# Altium integrated library NSC Temperature Sensor.IntLib: 116 symbols (part 3 of 3)
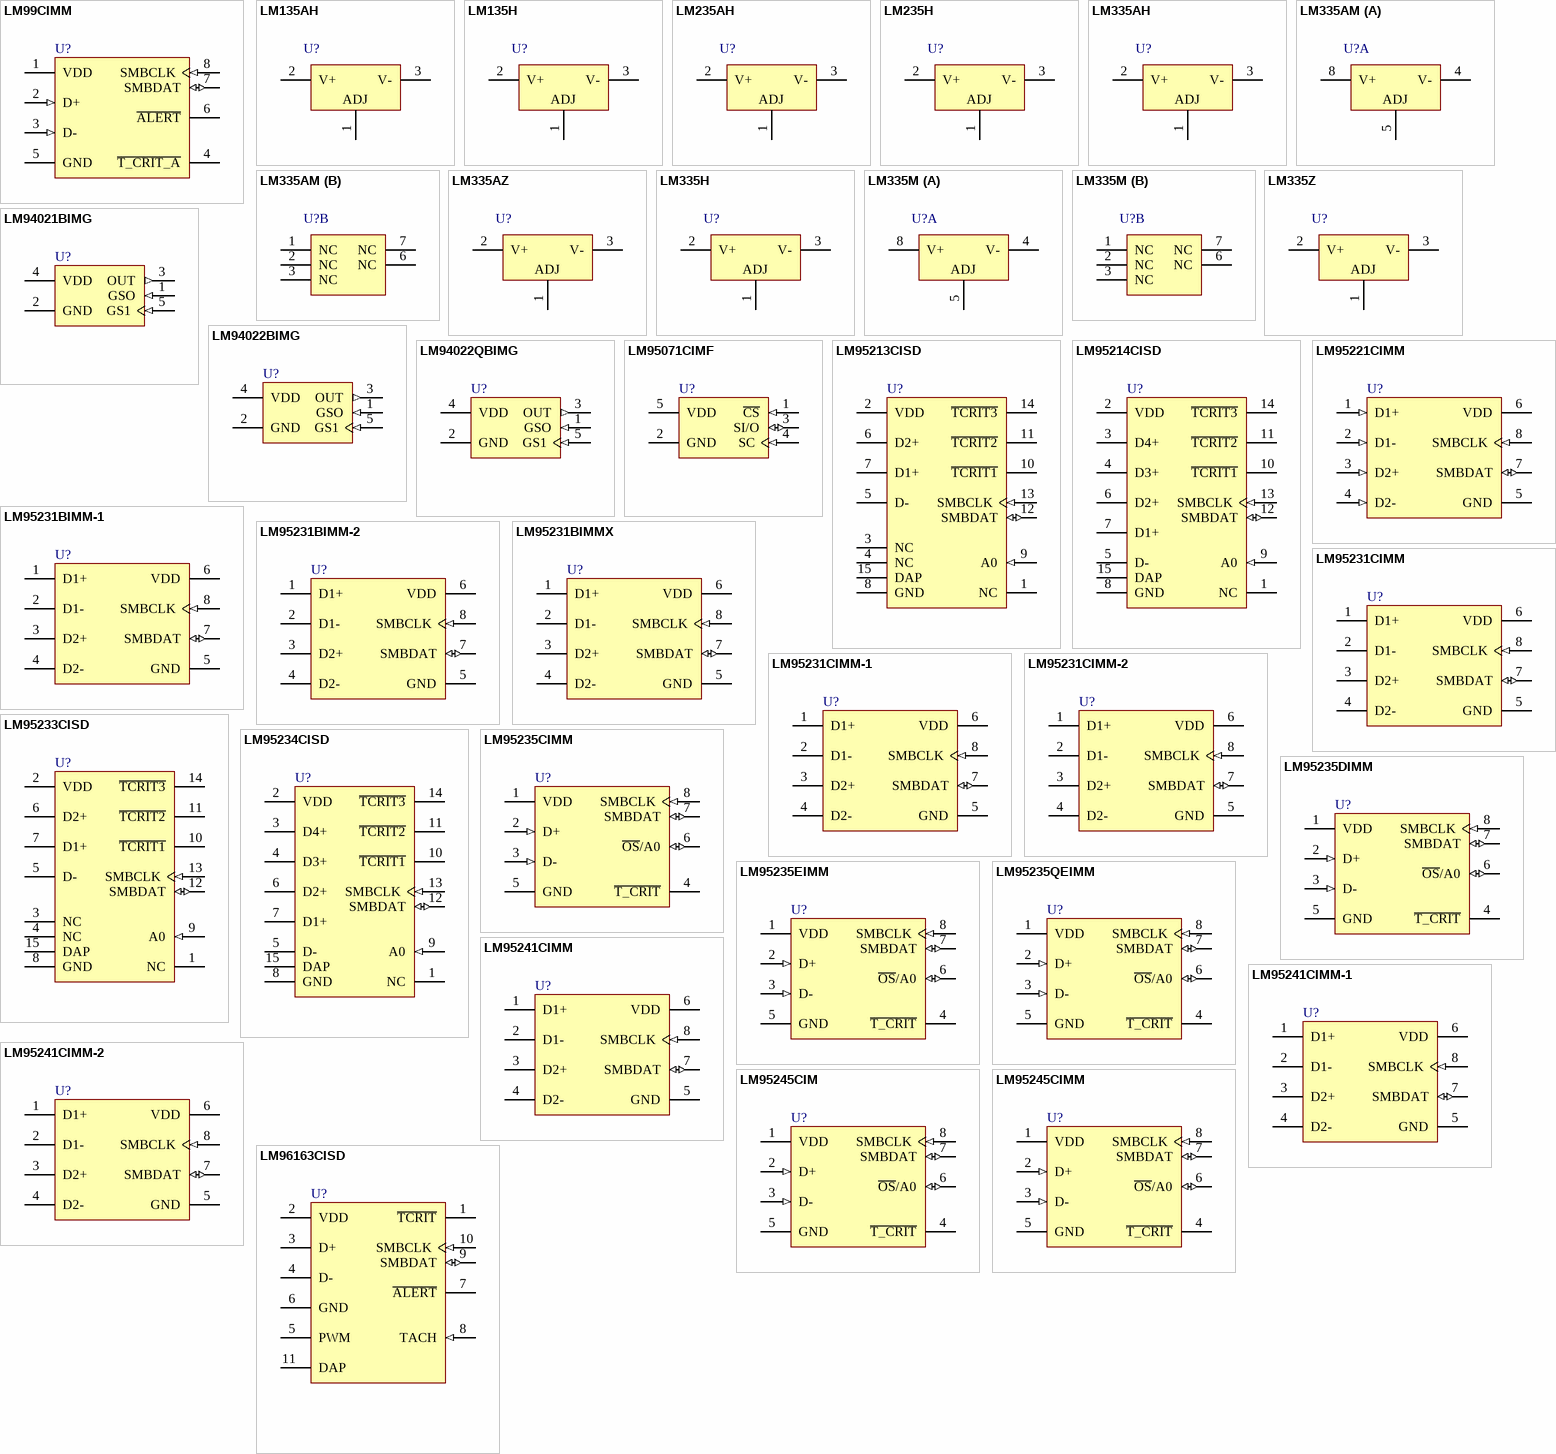
[diagram p4: symbols LM99CIMM to LM96163CISD]

## LM335AZ
designator U?
Precision Temperature Sensor; PartNumber: LM335AZ; Manufacturer: National Semiconductor; CompType: Temp Sensor IC; PackageTopMarking: NSXYTT*LM335*AZ; PowerWise: N; Published: 29-May-2009; DatasheetVersion: Dec-2008; PackageVersion: revG, Sep-2000; PackageReference: Z03A; Publisher: Altium Limited; PackageDescription: TO-92, Molded, 3 Lead; RoHS: O; PinCount: 3; DigiKeyPartNumber: LM335AZ-ND; Code_JEDEC: TO-226-AA; ComponentLink1Description: LM335A Datasheet; ComponentLink1URL: http://www.national.com/ds/LM/LM335.pdf; ComponentLink2Description: LM335A Web Page; ComponentLink2URL: http://www.national.com/pf/LM/LM335A.html; ComponentLink3Description: Z03A Package Page; ComponentLink3URL: http://www.national.com/packaging/folders/z03a.html
footprint Z03A (TO, Flat Index; 3 In-Line, Axial Leads; Body Dia. 5mm; Leads 0.55 x 0.50 mm (max))
pins: 1 ADJ, 2 V+, 3 V-

## LM335H
designator U?
Precision Temperature Sensor; PartNumber: LM335H; Manufacturer: National Semiconductor; CompType: Temp Sensor IC; PackageTopMarking: NSXYTTE# LM335H; PowerWise: N; MilaeroCode: 2MC; Published: 29-May-2009; DatasheetVersion: Dec-2008; PackageVersion: revF, Apr-2002; PackageReference: H03H; Publisher: Altium Limited; PackageDescription: Metal Can, TO-46, 3 Lead, .100in Dia, P.C.; RoHS: O; PinCount: 3; DigiKeyPartNumber: LM335H-ND; Code_JEDEC: TO-46; ComponentLink1Description: LM335 Datasheet; ComponentLink1URL: http://www.national.com/ds/LM/LM335.pdf; ComponentLink2Description: LM335 Web Page; ComponentLink2URL: http://www.national.com/pf/LM/LM335.html; ComponentLink3Description: H03H Package Page; ComponentLink3URL: http://www.national.com/packaging/folders/h03h.html
footprint H03H (Can; 3 Leads; Pin Circle Dia. 2.54 mm; Lead Dia. 0.48 mm (max))
pins: 1 ADJ, 2 V+, 3 V-

## LM335M
designator U?
Precision Temperature Sensor; PartNumber: LM335M; Manufacturer: National Semiconductor; CompType: Temp Sensor IC; PackageTopMarking: NSZXTT*LM335*M; PowerWise: N; Published: 29-May-2009; DatasheetVersion: Dec-2008; PackageVersion: revL, Sep-2006; PackageReference: M08A; Publisher: Altium Limited; PackageDescription: SOIC Narrow, 4.9 x 3.9 x 1.45mm, 8 Lead, 1.27mm Pitch; RoHS: O; PinCount: 8; DigiKeyPartNumber: LM335M-ND; Code_JEDEC: MS-012-AA; Code_IPC: SOIC127P600-8; ComponentLink1Description: LM335 Datasheet; ComponentLink1URL: http://www.national.com/ds/LM/LM335.pdf; ComponentLink2Description: LM335 Web Page; ComponentLink2URL: http://www.national.com/pf/LM/LM335.html; ComponentLink3Description: M08A Package Page; ComponentLink3URL: http://www.national.com/packaging/folders/m08a.html
footprint M08A_N (SOIC, 8-Leads, Body 4.9x3.9mm, Pitch 1.27mm, IPC Medium Density)
footprint M08A_L (SOIC, 8-Leads, Body 4.9x3.9mm, Pitch 1.27mm, IPC High Density)
footprint M08A_M (SOIC, 8-Leads, Body 4.9x3.9mm, Pitch 1.27mm, IPC Low Density)
part A pins: 4 V-, 5 ADJ, 8 V+
part B pins: 1 NC, 2 NC, 3 NC, 6 NC, 7 NC

## LM335Z
designator U?
Precision Temperature Sensor; PartNumber: LM335Z; Manufacturer: National Semiconductor; CompType: Temp Sensor IC; PackageTopMarking: NSXYTT*LM335*Z; PowerWise: N; Published: 29-May-2009; DatasheetVersion: Dec-2008; PackageVersion: revG, Sep-2000; PackageReference: Z03A; Publisher: Altium Limited; PackageDescription: TO-92, Molded, 3 Lead; RoHS: O; PinCount: 3; DigiKeyPartNumber: LM335ZNS-ND; Code_JEDEC: TO-226-AA; ComponentLink1Description: LM335 Datasheet; ComponentLink1URL: http://www.national.com/ds/LM/LM335.pdf; ComponentLink2Description: LM335 Web Page; ComponentLink2URL: http://www.national.com/pf/LM/LM335.html; ComponentLink3Description: Z03A Package Page; ComponentLink3URL: http://www.national.com/packaging/folders/z03a.html
footprint Z03A (TO, Flat Index; 3 In-Line, Axial Leads; Body Dia. 5mm; Leads 0.55 x 0.50 mm (max))
pins: 1 ADJ, 2 V+, 3 V-

## LM94021BIMG
designator U?
Multi-Gain Analog Temperature Sensor; PartNumber: LM94021BIMG; Manufacturer: National Semiconductor; CompType: Temp Sensor IC; PackageTopMarking: 21B*XTT; PowerWise: Y; Published: 4-Dec-2008; DatasheetVersion: Feb-2005; PackageVersion: revD, Jun-2007; PackageReference: MAA05A; Publisher: Altium Limited; PackageDescription: Molded SC-70, 2 x 1.25 x .9mm, 5 Lead, 0.65mm Pitch; RoHS: Y; PinCount: 5; DigiKeyPartNumber: LM94021BIMGCT-ND; Code_JEITA: SC-88A; Code_JEDEC: MO-203-AA; Code_IPC: SOT353-5; ComponentLink1Description: LM94021 Datasheet; ComponentLink1URL: http://www.national.com/ds/LM/LM94021.pdf; ComponentLink2Description: LM94021 Web Page; ComponentLink2URL: http://www.national.com/pf/LM/LM94021.html; ComponentLink3Description: MAA05A Package Page; ComponentLink3URL: http://www.national.com/packaging/folders/maa05a.html
footprint MAA05A_N (SOT353, 5-Leads, Body 2x1.3mm, Pitch 0.65mm, Lead Span 2.1mm, IPC Medium Density)
footprint MAA05A_L (SOT353, 5-Leads, Body 2x1.3mm, Pitch 0.65mm, Lead Span 2.1mm, IPC High Density)
footprint MAA05A_M (SOT353, 5-Leads, Body 2x1.3mm, Pitch 0.65mm, Lead Span 2.1mm, IPC Low Density)
pins: 1 GSO (in), 2 GND (power), 3 OUT (out), 4 VDD (power), 5 GS1 (in)

## LM94022BIMG
designator U?
1.5V, SC70, Multi-Gain Analog Temperature Sensor with Class-AB Output; PartNumber: LM94022BIMG; Manufacturer: National Semiconductor; CompType: Temp Sensor IC; PackageTopMarking: 22B*XTT; PowerWise: Y; Published: 4-Dec-2008; DatasheetVersion: Dec-2007; PackageVersion: revD, Jun-2007; PackageReference: MAA05A; Publisher: Altium Limited; PackageDescription: Molded SC-70, 2 x 1.25 x .9mm, 5 Lead, 0.65mm Pitch; RoHS: O; PinCount: 5; DigiKeyPartNumber: LM94022BIMGCT-ND; Code_JEITA: SC-88A; Code_JEDEC: MO-203-AA; Code_IPC: SOT353-5; ComponentLink1Description: LM94022 Datasheet; ComponentLink1URL: http://www.national.com/ds/LM/LM94022.pdf; ComponentLink2Description: LM94022 Web Page; ComponentLink2URL: http://www.national.com/pf/LM/LM94022.html; ComponentLink3Description: MAA05A Package Page; ComponentLink3URL: http://www.national.com/packaging/folders/maa05a.html
footprint MAA05A_N (SOT353, 5-Leads, Body 2x1.3mm, Pitch 0.65mm, Lead Span 2.1mm, IPC Medium Density)
footprint MAA05A_L (SOT353, 5-Leads, Body 2x1.3mm, Pitch 0.65mm, Lead Span 2.1mm, IPC High Density)
footprint MAA05A_M (SOT353, 5-Leads, Body 2x1.3mm, Pitch 0.65mm, Lead Span 2.1mm, IPC Low Density)
pins: 1 GSO (in), 2 GND (power), 3 OUT (out), 4 VDD (power), 5 GS1 (in)

## LM94022QBIMG
designator U?
1.5V, SC70, Multi-Gain Analog Temperature Sensor with Class-AB Output; PartNumber: LM94022QBIMG; Manufacturer: National Semiconductor; CompType: Temp Sensor IC; PackageTopMarking: 22Q*XTT; PowerWise: N; Published: 4-Dec-2008; DatasheetVersion: Dec-2007; PackageVersion: revD, Jun-2007; PackageReference: MAA05A; Publisher: Altium Limited; PackageDescription: Molded SC-70, 2 x 1.25 x .9mm, 5 Lead, 0.65mm Pitch; RoHS: Y; PinCount: 5; DigiKeyPartNumber: LM94022QBIMGCT-ND; Code_JEITA: SC-88A; Code_JEDEC: MO-203-AA; Code_IPC: SOT353-5; ComponentLink1Description: LM94022 Datasheet; ComponentLink1URL: http://www.national.com/ds/LM/LM94022.pdf; ComponentLink2Description: LM94022 Web Page; ComponentLink2URL: http://www.national.com/pf/LM/LM94022.html; ComponentLink3Description: MAA05A Package Page; ComponentLink3URL: http://www.national.com/packaging/folders/maa05a.html
footprint MAA05A_N (SOT353, 5-Leads, Body 2x1.3mm, Pitch 0.65mm, Lead Span 2.1mm, IPC Medium Density)
footprint MAA05A_L (SOT353, 5-Leads, Body 2x1.3mm, Pitch 0.65mm, Lead Span 2.1mm, IPC High Density)
footprint MAA05A_M (SOT353, 5-Leads, Body 2x1.3mm, Pitch 0.65mm, Lead Span 2.1mm, IPC Low Density)
pins: 1 GSO (in), 2 GND (power), 3 OUT (out), 4 VDD (power), 5 GS1 (in)

## LM95071CIMF
designator U?
SPI/MICROWIRE 13-Bit Plus Sign Temperature Sensor; PartNumber: LM95071CIMF; Manufacturer: National Semiconductor; CompType: Temp Sensor IC; PackageTopMarking: T18C*XTT; PowerWise: Y; Published: 4-Dec-2008; DatasheetVersion: Feb-2005; PackageVersion: revD, Aug-2008; PackageReference: MF05A; Publisher: Altium Limited; PackageDescription: Molded SOT-23, .115 x .063 x .040 in Body, 5 Lead, .0375 in Pitch; RoHS: Y; PinCount: 5; DigiKeyPartNumber: LM95071CIMFCT-ND; ComponentLink1Description: LM95071 Datasheet; ComponentLink1URL: http://www.national.com/ds/LM/LM95071.pdf; ComponentLink2Description: LM95071 Web Page; ComponentLink2URL: http://www.national.com/pf/LM/LM95071.html; ComponentLink3Description: MF05A Package Page; ComponentLink3URL: http://www.national.com/packaging/folders/mf05a.html
footprint MF05A_N (SOT23, 5-Leads, Body 2.9x1.6mm, Pitch 0.95mm, Lead Span 2.8mm, IPC Medium Density)
footprint MF05A_L (SOT23, 5-Leads, Body 2.9x1.6mm, Pitch 0.95mm, Lead Span 2.8mm, IPC High Density)
footprint MF05A_M (SOT23, 5-Leads, Body 2.9x1.6mm, Pitch 0.95mm, Lead Span 2.8mm, IPC Low Density)
pins: 1 ~{CS} (in), 2 GND (power), 3 SI/O (io), 4 SC (in), 5 VDD (power)

## LM95213CISD
designator U?
2-Diode Input and Local Digital Temperature Sensor with Two-Wire Interface and TCRIT Outputs; PartNumber: LM95213CISD; Manufacturer: National Semiconductor; CompType: Temp Sensor IC; PackageTopMarking: NS*UZXYTT*95213CI; PowerWise: Y; Published: 4-Dec-2008; DatasheetVersion: Mar-2007; PackageVersion: revA, Jul-2004; PackageReference: SDA14B; Publisher: Altium Limited; PackageDescription: LLP, Plastic, Dual, 4 x 4 x 0.8mm Body, 14 Lead, 0.5mm Pitch, No Pullback; RoHS: Y; PinCount: 14; DigiKeyPartNumber: LM95213CISDCT-ND; ComponentLink1Description: LM95213 Datasheet; ComponentLink1URL: http://www.national.com/ds/LM/LM95213.pdf; ComponentLink2Description: LM95213 Web Page; ComponentLink2URL: http://www.national.com/pf/LM/LM95213.html; ComponentLink3Description: SDA14B Package Page; ComponentLink3URL: http://www.national.com/packaging/folders/sda14b.html
footprint SDA14B (SON, 14-Leads, Body 4x4mm, Pitch 0.5mm, NSC Recommended)
pins: 1 NC, 2 VDD (power), 3 NC, 4 NC, 5 D-, 6 D2+, 7 D1+, 8 GND (power), 9 A0 (in), 10 ~{TCRIT1} (oc), 11 ~{TCRIT2} (oc), 12 SMBDAT (io), 13 SMBCLK (in), 14 ~{TCRIT3} (oc), 15 DAP (power)

## LM95214CISD
designator U?
Quad Remote Diode and Local Temperature Sensor with SMBus Interface; PartNumber: LM95214CISD; Manufacturer: National Semiconductor; CompType: Temp Sensor IC; PackageTopMarking: NS*UZXYTT*95214CI; PowerWise: Y; Published: 4-Dec-2008; DatasheetVersion: Mar-2007; PackageVersion: revA, Jul-2004; PackageReference: SDA14B; Publisher: Altium Limited; PackageDescription: LLP, Plastic, Dual, 4 x 4 x 0.8mm Body, 14 Lead, 0.5mm Pitch, No Pullback; RoHS: Y; PinCount: 14; DigiKeyPartNumber: LM95214CISDCT-ND; ComponentLink1Description: LM95214 Datasheet; ComponentLink1URL: http://www.national.com/ds/LM/LM95214.pdf; ComponentLink2Description: LM95214 Web Page; ComponentLink2URL: http://www.national.com/pf/LM/LM95214.html; ComponentLink3Description: SDA14B Package Page; ComponentLink3URL: http://www.national.com/packaging/folders/sda14b.html
footprint SDA14B (SON, 14-Leads, Body 4x4mm, Pitch 0.5mm, NSC Recommended)
pins: 1 NC, 2 VDD (power), 3 D4+, 4 D3+, 5 D-, 6 D2+, 7 D1+, 8 GND (power), 9 A0 (in), 10 ~{TCRIT1} (oc), 11 ~{TCRIT2} (oc), 12 SMBDAT (io), 13 SMBCLK (in), 14 ~{TCRIT3} (oc), 15 DAP (power)

## LM95221CIMM
designator U?
Dual Remote Diode Digital Temperature Sensor with SMBus Interface; PartNumber: LM95221CIMM; Manufacturer: National Semiconductor; CompType: Temp Sensor IC; PackageTopMarking: ZXTT*T21C; PowerWise: N; Published: 4-Dec-2008; DatasheetVersion: May-2004; PackageVersion: revF, Apr-2008; PackageReference: MUA08A; Publisher: Altium Limited; PackageDescription: MINI SOIC, .118 x .118 x .034in, 8 Lead, .0256in Pitch; RoHS: Y; PinCount: 8; DigiKeyPartNumber: LM95221CIMM-ND; Code_JEDEC: MO-187-AA; ComponentLink1Description: LM95221 Datasheet; ComponentLink1URL: http://www.national.com/ds/LM/LM95221.pdf; ComponentLink2Description: LM95221 Web Page; ComponentLink2URL: http://www.national.com/pf/LM/LM95221.html; ComponentLink3Description: MUA08A Package Page; ComponentLink3URL: http://www.national.com/packaging/folders/mua08a.html
footprint MUA08A_N (TSOP, 8-Leads, Body 3x3mm, Pitch 0.65mm, IPC Medium Density)
footprint MUA08A_L (TSOP, 8-Leads, Body 3x3mm, Pitch 0.65mm, IPC High Density)
footprint MUA08A_M (TSOP, 8-Leads, Body 3x3mm, Pitch 0.65mm, IPC Low Density)
pins: 1 D1+ (in), 2 D1- (in), 3 D2+ (in), 4 D2- (in), 5 GND (power), 6 VDD (power), 7 SMBDAT (io), 8 SMBCLK (in)

## LM95231BIMM-1
designator U?
Precision Dual Remote Diode Temperature Sensor with SMBus Interface and TruTherm Technology; PartNumber: LM95231BIMM-1; Manufacturer: National Semiconductor; CompType: Temp Sensor IC; PackageTopMarking: ZXTT*T25B; PowerWise: N; Published: 4-Dec-2008; DatasheetVersion: Aug-2006; PackageVersion: revF, Apr-2008; PackageReference: MUA08A; Publisher: Altium Limited; PackageDescription: MINI SOIC, .118 x .118 x .034in, 8 Lead, .0256in Pitch; RoHS: Y; PinCount: 8; DigiKeyPartNumber: LM95231BIMM-1CT-ND; Code_JEDEC: MO-187-AA; ComponentLink1Description: LM95231 Datasheet; ComponentLink1URL: http://www.national.com/ds/LM/LM95231.pdf; ComponentLink2Description: LM95231 Web Page; ComponentLink2URL: http://www.national.com/pf/LM/LM95231.html; ComponentLink3Description: MUA08A Package Page; ComponentLink3URL: http://www.national.com/packaging/folders/mua08a.html
footprint MUA08A_N (TSOP, 8-Leads, Body 3x3mm, Pitch 0.65mm, IPC Medium Density)
footprint MUA08A_L (TSOP, 8-Leads, Body 3x3mm, Pitch 0.65mm, IPC High Density)
footprint MUA08A_M (TSOP, 8-Leads, Body 3x3mm, Pitch 0.65mm, IPC Low Density)
pins: 1 D1+, 2 D1-, 3 D2+, 4 D2-, 5 GND (power), 6 VDD (power), 7 SMBDAT (io), 8 SMBCLK (in)

## LM95231BIMM-2
designator U?
Precision Dual Remote Diode Temperature Sensor with SMBus Interface and TruTherm Technology; PartNumber: LM95231BIMM-2; Manufacturer: National Semiconductor; CompType: Temp Sensor IC; PackageTopMarking: ZXTT*T26B; PowerWise: N; Published: 4-Dec-2008; DatasheetVersion: Aug-2006; PackageVersion: revF, Apr-2008; PackageReference: MUA08A; Publisher: Altium Limited; PackageDescription: MINI SOIC, .118 x .118 x .034in, 8 Lead, .0256in Pitch; RoHS: Y; PinCount: 8; DigiKeyPartNumber: LM95231BIMM-2CT-ND; Code_JEDEC: MO-187-AA; ComponentLink1Description: LM95231 Datasheet; ComponentLink1URL: http://www.national.com/ds/LM/LM95231.pdf; ComponentLink2Description: LM95231 Web Page; ComponentLink2URL: http://www.national.com/pf/LM/LM95231.html; ComponentLink3Description: MUA08A Package Page; ComponentLink3URL: http://www.national.com/packaging/folders/mua08a.html
footprint MUA08A_N (TSOP, 8-Leads, Body 3x3mm, Pitch 0.65mm, IPC Medium Density)
footprint MUA08A_L (TSOP, 8-Leads, Body 3x3mm, Pitch 0.65mm, IPC High Density)
footprint MUA08A_M (TSOP, 8-Leads, Body 3x3mm, Pitch 0.65mm, IPC Low Density)
pins: 1 D1+, 2 D1-, 3 D2+, 4 D2-, 5 GND (power), 6 VDD (power), 7 SMBDAT (io), 8 SMBCLK (in)

## LM95231BIMMX
designator U?
Precision Dual Remote Diode Temperature Sensor with SMBus Interface and TruTherm Technology; PartNumber: LM95231BIMMX; Manufacturer: National Semiconductor; CompType: Temp Sensor IC; PackageTopMarking: ZXTT*T23B; PowerWise: N; Published: 4-Dec-2008; DatasheetVersion: Aug-2006; PackageVersion: revF, Apr-2008; PackageReference: MUA08A; Publisher: Altium Limited; PackageDescription: MINI SOIC, .118 x .118 x .034in, 8 Lead, .0256in Pitch; RoHS: Y; PinCount: 8; DigiKeyPartNumber: LM95231BIMMX-ND; Code_JEDEC: MO-187-AA; ComponentLink1Description: LM95231 Datasheet; ComponentLink1URL: http://www.national.com/ds/LM/LM95231.pdf; ComponentLink2Description: LM95231 Web Page; ComponentLink2URL: http://www.national.com/pf/LM/LM95231.html; ComponentLink3Description: MUA08A Package Page; ComponentLink3URL: http://www.national.com/packaging/folders/mua08a.html
footprint MUA08A_N (TSOP, 8-Leads, Body 3x3mm, Pitch 0.65mm, IPC Medium Density)
footprint MUA08A_L (TSOP, 8-Leads, Body 3x3mm, Pitch 0.65mm, IPC High Density)
footprint MUA08A_M (TSOP, 8-Leads, Body 3x3mm, Pitch 0.65mm, IPC Low Density)
pins: 1 D1+, 2 D1-, 3 D2+, 4 D2-, 5 GND (power), 6 VDD (power), 7 SMBDAT (io), 8 SMBCLK (in)

## LM95231CIMM
designator U?
Precision Dual Remote Diode Temperature Sensor with SMBus Interface and TruTherm Technology; PartNumber: LM95231CIMM; Manufacturer: National Semiconductor; CompType: Temp Sensor IC; PackageTopMarking: ZXTT*T23C; PowerWise: N; Published: 4-Dec-2008; DatasheetVersion: Aug-2006; PackageVersion: revF, Apr-2008; PackageReference: MUA08A; Publisher: Altium Limited; PackageDescription: MINI SOIC, .118 x .118 x .034in, 8 Lead, .0256in Pitch; RoHS: Y; PinCount: 8; DigiKeyPartNumber: LM95231CIMMCT-ND; Code_JEDEC: MO-187-AA; ComponentLink1Description: LM95231 Datasheet; ComponentLink1URL: http://www.national.com/ds/LM/LM95231.pdf; ComponentLink2Description: LM95231 Web Page; ComponentLink2URL: http://www.national.com/pf/LM/LM95231.html; ComponentLink3Description: MUA08A Package Page; ComponentLink3URL: http://www.national.com/packaging/folders/mua08a.html
footprint MUA08A_N (TSOP, 8-Leads, Body 3x3mm, Pitch 0.65mm, IPC Medium Density)
footprint MUA08A_L (TSOP, 8-Leads, Body 3x3mm, Pitch 0.65mm, IPC High Density)
footprint MUA08A_M (TSOP, 8-Leads, Body 3x3mm, Pitch 0.65mm, IPC Low Density)
pins: 1 D1+, 2 D1-, 3 D2+, 4 D2-, 5 GND (power), 6 VDD (power), 7 SMBDAT (io), 8 SMBCLK (in)

## LM95231CIMM-1
designator U?
Precision Dual Remote Diode Temperature Sensor with SMBus Interface and TruTherm Technology; PartNumber: LM95231CIMM-1; Manufacturer: National Semiconductor; CompType: Temp Sensor IC; PackageTopMarking: ZXTT*T25C; PowerWise: N; Published: 4-Dec-2008; DatasheetVersion: Aug-2006; PackageVersion: revF, Apr-2008; PackageReference: MUA08A; Publisher: Altium Limited; PackageDescription: MINI SOIC, .118 x .118 x .034in, 8 Lead, .0256in Pitch; RoHS: Y; PinCount: 8; DigiKeyPartNumber: LM95231CIMM-1CT-ND; Code_JEDEC: MO-187-AA; ComponentLink1Description: LM95231 Datasheet; ComponentLink1URL: http://www.national.com/ds/LM/LM95231.pdf; ComponentLink2Description: LM95231 Web Page; ComponentLink2URL: http://www.national.com/pf/LM/LM95231.html; ComponentLink3Description: MUA08A Package Page; ComponentLink3URL: http://www.national.com/packaging/folders/mua08a.html
footprint MUA08A_N (TSOP, 8-Leads, Body 3x3mm, Pitch 0.65mm, IPC Medium Density)
footprint MUA08A_L (TSOP, 8-Leads, Body 3x3mm, Pitch 0.65mm, IPC High Density)
footprint MUA08A_M (TSOP, 8-Leads, Body 3x3mm, Pitch 0.65mm, IPC Low Density)
pins: 1 D1+, 2 D1-, 3 D2+, 4 D2-, 5 GND (power), 6 VDD (power), 7 SMBDAT (io), 8 SMBCLK (in)

## LM95231CIMM-2
designator U?
Precision Dual Remote Diode Temperature Sensor with SMBus Interface and TruTherm Technology; PartNumber: LM95231CIMM-2; Manufacturer: National Semiconductor; CompType: Temp Sensor IC; PackageTopMarking: ZXTT*T26C; PowerWise: N; Published: 4-Dec-2008; DatasheetVersion: Aug-2006; PackageVersion: revF, Apr-2008; PackageReference: MUA08A; Publisher: Altium Limited; PackageDescription: MINI SOIC, .118 x .118 x .034in, 8 Lead, .0256in Pitch; RoHS: Y; PinCount: 8; DigiKeyPartNumber: LM95231CIMM-2CT-ND; Code_JEDEC: MO-187-AA; ComponentLink1Description: LM95231 Datasheet; ComponentLink1URL: http://www.national.com/ds/LM/LM95231.pdf; ComponentLink2Description: LM95231 Web Page; ComponentLink2URL: http://www.national.com/pf/LM/LM95231.html; ComponentLink3Description: MUA08A Package Page; ComponentLink3URL: http://www.national.com/packaging/folders/mua08a.html
footprint MUA08A_N (TSOP, 8-Leads, Body 3x3mm, Pitch 0.65mm, IPC Medium Density)
footprint MUA08A_L (TSOP, 8-Leads, Body 3x3mm, Pitch 0.65mm, IPC High Density)
footprint MUA08A_M (TSOP, 8-Leads, Body 3x3mm, Pitch 0.65mm, IPC Low Density)
pins: 1 D1+, 2 D1-, 3 D2+, 4 D2-, 5 GND (power), 6 VDD (power), 7 SMBDAT (io), 8 SMBCLK (in)

## LM95233CISD
designator U?
Dual Remote Diode and Local Temperature Sensor with SMBus Interface and TruTherm Technology; PartNumber: LM95233CISD; Manufacturer: National Semiconductor; CompType: Temp Sensor IC; PackageTopMarking: NS*UZXYTT*95233CI; PowerWise: Y; Published: 4-Dec-2008; DatasheetVersion: Jun-2007; PackageVersion: revA, Jul-2004; PackageReference: SDA14B; Publisher: Altium Limited; PackageDescription: LLP, Plastic, Dual, 4 x 4 x 0.8mm Body, 14 Lead, 0.5mm Pitch, No Pullback; RoHS: O; PinCount: 14; DigiKeyPartNumber: LM95233CISDCT-ND; ComponentLink1Description: LM95233 Datasheet; ComponentLink1URL: http://www.national.com/ds/LM/LM95233.pdf; ComponentLink2Description: LM95233 Web Page; ComponentLink2URL: http://www.national.com/pf/LM/LM95233.html; ComponentLink3Description: SDA14B Package Page; ComponentLink3URL: http://www.national.com/packaging/folders/sda14b.html
footprint SDA14B (SON, 14-Leads, Body 4x4mm, Pitch 0.5mm, NSC Recommended)
pins: 1 NC, 2 VDD (power), 3 NC, 4 NC, 5 D-, 6 D2+, 7 D1+, 8 GND (power), 9 A0 (in), 10 ~{TCRIT1} (oc), 11 ~{TCRIT2} (oc), 12 SMBDAT (io), 13 SMBCLK (in), 14 ~{TCRIT3} (oc), 15 DAP (power)

## LM95234CISD
designator U?
Quad Remote Diode and Local Temperature Sensor with SMBus Interface and TruTherm Technology; PartNumber: LM95234CISD; Manufacturer: National Semiconductor; CompType: Temp Sensor IC; PackageTopMarking: NS*UZXYTT*95234CI; PowerWise: Y; Published: 4-Dec-2008; DatasheetVersion: Jun-2007; PackageVersion: revA, Jul-2004; PackageReference: SDA14B; Publisher: Altium Limited; PackageDescription: LLP, Plastic, Dual, 4 x 4 x 0.8mm Body, 14 Lead, 0.5mm Pitch, No Pullback; RoHS: O; PinCount: 14; DigiKeyPartNumber: LM95234CISDCT-ND; ComponentLink1Description: LM95234 Datasheet; ComponentLink1URL: http://www.national.com/ds/LM/LM95234.pdf; ComponentLink2Description: LM95234 Web Page; ComponentLink2URL: http://www.national.com/pf/LM/LM95234.html; ComponentLink3Description: SDA14B Package Page; ComponentLink3URL: http://www.national.com/packaging/folders/sda14b.html
footprint SDA14B (SON, 14-Leads, Body 4x4mm, Pitch 0.5mm, NSC Recommended)
pins: 1 NC, 2 VDD (power), 3 D4+, 4 D3+, 5 D-, 6 D2+, 7 D1+, 8 GND (power), 9 A0 (in), 10 ~{TCRIT1} (oc), 11 ~{TCRIT2} (oc), 12 SMBDAT (io), 13 SMBCLK (in), 14 ~{TCRIT3} (oc), 15 DAP (power)

## LM95235CIMM
designator U?
Precision Remote Diode Temperature Sensor with SMBus Interface and TruTherm Technology; PartNumber: LM95235CIMM; Manufacturer: National Semiconductor; CompType: Temp Sensor IC; PackageTopMarking: ZXTT*T36C; PowerWise: Y; Published: 4-Dec-2008; DatasheetVersion: Aug-2008; PackageVersion: revF, Apr-2008; PackageReference: MUA08A; Publisher: Altium Limited; PackageDescription: MINI SOIC, .118 x .118 x .034in, 8 Lead, .0256in Pitch; RoHS: Y; PinCount: 8; DigiKeyPartNumber: LM95235CIMMCT-ND; Code_JEDEC: MO-187-AA; ComponentLink1Description: LM95235 Datasheet; ComponentLink1URL: http://www.national.com/ds/LM/LM95235.pdf; ComponentLink2Description: LM95235 Web Page; ComponentLink2URL: http://www.national.com/pf/LM/LM95235.html; ComponentLink3Description: MUA08A Package Page; ComponentLink3URL: http://www.national.com/packaging/folders/mua08a.html
footprint MUA08A_N (TSOP, 8-Leads, Body 3x3mm, Pitch 0.65mm, IPC Medium Density)
footprint MUA08A_L (TSOP, 8-Leads, Body 3x3mm, Pitch 0.65mm, IPC High Density)
footprint MUA08A_M (TSOP, 8-Leads, Body 3x3mm, Pitch 0.65mm, IPC Low Density)
pins: 1 VDD (power), 2 D+ (in), 3 D- (in), 4 ~{T_CRIT} (oc), 5 GND (power), 6 ~{OS}/A0 (io), 7 SMBDAT (io), 8 SMBCLK (in)

## LM95235DIMM
designator U?
Precision Remote Diode Temperature Sensor with SMBus Interface and TruTherm Technology; PartNumber: LM95235DIMM; Manufacturer: National Semiconductor; CompType: Temp Sensor IC; PackageTopMarking: ZXTT*T36D; PowerWise: N; Published: 4-Dec-2008; DatasheetVersion: Aug-2008; PackageVersion: revF, Apr-2008; PackageReference: MUA08A; Publisher: Altium Limited; PackageDescription: MINI SOIC, .118 x .118 x .034in, 8 Lead, .0256in Pitch; RoHS: Y; PinCount: 8; DigiKeyPartNumber: LM95235DIMMCT-ND; Code_JEDEC: MO-187-AA; ComponentLink1Description: LM95235 Datasheet; ComponentLink1URL: http://www.national.com/ds/LM/LM95235.pdf; ComponentLink2Description: LM95235 Web Page; ComponentLink2URL: http://www.national.com/pf/LM/LM95235.html; ComponentLink3Description: MUA08A Package Page; ComponentLink3URL: http://www.national.com/packaging/folders/mua08a.html
footprint MUA08A_N (TSOP, 8-Leads, Body 3x3mm, Pitch 0.65mm, IPC Medium Density)
footprint MUA08A_L (TSOP, 8-Leads, Body 3x3mm, Pitch 0.65mm, IPC High Density)
footprint MUA08A_M (TSOP, 8-Leads, Body 3x3mm, Pitch 0.65mm, IPC Low Density)
pins: 1 VDD (power), 2 D+ (in), 3 D- (in), 4 ~{T_CRIT} (oc), 5 GND (power), 6 ~{OS}/A0 (io), 7 SMBDAT (io), 8 SMBCLK (in)

## LM95235EIMM
designator U?
Precision Remote Diode Temperature Sensor with SMBus Interface and TruTherm Technology; PartNumber: LM95235EIMM; Manufacturer: National Semiconductor; CompType: Temp Sensor IC; PackageTopMarking: ZXTT*T36E; PowerWise: N; Published: 4-Dec-2008; DatasheetVersion: Aug-2008; PackageVersion: revF, Apr-2008; PackageReference: MUA08A; Publisher: Altium Limited; PackageDescription: MINI SOIC, .118 x .118 x .034in, 8 Lead, .0256in Pitch; RoHS: Y; PinCount: 8; DigiKeyPartNumber: LM95235EIMMCT-ND; Code_JEDEC: MO-187-AA; ComponentLink1Description: LM95235 Datasheet; ComponentLink1URL: http://www.national.com/ds/LM/LM95235.pdf; ComponentLink2Description: LM95235 Web Page; ComponentLink2URL: http://www.national.com/pf/LM/LM95235.html; ComponentLink3Description: MUA08A Package Page; ComponentLink3URL: http://www.national.com/packaging/folders/mua08a.html
footprint MUA08A_N (TSOP, 8-Leads, Body 3x3mm, Pitch 0.65mm, IPC Medium Density)
footprint MUA08A_L (TSOP, 8-Leads, Body 3x3mm, Pitch 0.65mm, IPC High Density)
footprint MUA08A_M (TSOP, 8-Leads, Body 3x3mm, Pitch 0.65mm, IPC Low Density)
pins: 1 VDD (power), 2 D+ (in), 3 D- (in), 4 ~{T_CRIT} (oc), 5 GND (power), 6 ~{OS}/A0 (io), 7 SMBDAT (io), 8 SMBCLK (in)

## LM95235QEIMM
designator U?
Precision Remote Diode Temperature Sensor with SMBus Interface and TruTherm Technology; PartNumber: LM95235QEIMM; Manufacturer: National Semiconductor; CompType: Temp Sensor IC; PackageTopMarking: ZXTT*36QE; PowerWise: N; Published: 4-Dec-2008; DatasheetVersion: Aug-2008; PackageVersion: revF, Apr-2008; PackageReference: MUA08A; Publisher: Altium Limited; PackageDescription: MINI SOIC, .118 x .118 x .034in, 8 Lead, .0256in Pitch; RoHS: O; PinCount: 8; DigiKeyPartNumber: LM95235QEIMMCT-ND; Code_JEDEC: MO-187-AA; ComponentLink1Description: LM95235 Datasheet; ComponentLink1URL: http://www.national.com/ds/LM/LM95235.pdf; ComponentLink2Description: LM95235 Web Page; ComponentLink2URL: http://www.national.com/pf/LM/LM95235.html; ComponentLink3Description: MUA08A Package Page; ComponentLink3URL: http://www.national.com/packaging/folders/mua08a.html
footprint MUA08A_N (TSOP, 8-Leads, Body 3x3mm, Pitch 0.65mm, IPC Medium Density)
footprint MUA08A_L (TSOP, 8-Leads, Body 3x3mm, Pitch 0.65mm, IPC High Density)
footprint MUA08A_M (TSOP, 8-Leads, Body 3x3mm, Pitch 0.65mm, IPC Low Density)
pins: 1 VDD (power), 2 D+ (in), 3 D- (in), 4 ~{T_CRIT} (oc), 5 GND (power), 6 ~{OS}/A0 (io), 7 SMBDAT (io), 8 SMBCLK (in)

## LM95241CIMM
designator U?
Dual Remote Diode Temperature Sensor with SMBus Interface and TruTherm Technology (65nm/90nm); PartNumber: LM95241CIMM; Manufacturer: National Semiconductor; CompType: Temp Sensor IC; PackageTopMarking: ZXTT*T28C; PowerWise: Y; Published: 4-Dec-2008; DatasheetVersion: Sep-2006; PackageVersion: revF, Apr-2008; PackageReference: MUA08A; Publisher: Altium Limited; PackageDescription: MINI SOIC, .118 x .118 x .034in, 8 Lead, .0256in Pitch; RoHS: Y; PinCount: 8; DigiKeyPartNumber: LM95241CIMMCT-ND; Code_JEDEC: MO-187-AA; ComponentLink1Description: LM95241 Datasheet; ComponentLink1URL: http://www.national.com/ds/LM/LM95241.pdf; ComponentLink2Description: LM95241 Web Page; ComponentLink2URL: http://www.national.com/pf/LM/LM95241.html; ComponentLink3Description: MUA08A Package Page; ComponentLink3URL: http://www.national.com/packaging/folders/mua08a.html
footprint MUA08A_N (TSOP, 8-Leads, Body 3x3mm, Pitch 0.65mm, IPC Medium Density)
footprint MUA08A_L (TSOP, 8-Leads, Body 3x3mm, Pitch 0.65mm, IPC High Density)
footprint MUA08A_M (TSOP, 8-Leads, Body 3x3mm, Pitch 0.65mm, IPC Low Density)
pins: 1 D1+, 2 D1-, 3 D2+, 4 D2-, 5 GND (power), 6 VDD (power), 7 SMBDAT (io), 8 SMBCLK (in)

## LM95241CIMM-1
designator U?
Dual Remote Diode Temperature Sensor with SMBus Interface and TruTherm Technology (65nm/90nm); PartNumber: LM95241CIMM-1; Manufacturer: National Semiconductor; CompType: Temp Sensor IC; PackageTopMarking: ZXTT*T29C; PowerWise: Y; Published: 4-Dec-2008; DatasheetVersion: Sep-2006; PackageVersion: revF, Apr-2008; PackageReference: MUA08A; Publisher: Altium Limited; PackageDescription: MINI SOIC, .118 x .118 x .034in, 8 Lead, .0256in Pitch; RoHS: Y; PinCount: 8; DigiKeyPartNumber: LM95241CIMM-1CT-ND; Code_JEDEC: MO-187-AA; ComponentLink1Description: LM95241 Datasheet; ComponentLink1URL: http://www.national.com/ds/LM/LM95241.pdf; ComponentLink2Description: LM95241 Web Page; ComponentLink2URL: http://www.national.com/pf/LM/LM95241.html; ComponentLink3Description: MUA08A Package Page; ComponentLink3URL: http://www.national.com/packaging/folders/mua08a.html
footprint MUA08A_N (TSOP, 8-Leads, Body 3x3mm, Pitch 0.65mm, IPC Medium Density)
footprint MUA08A_L (TSOP, 8-Leads, Body 3x3mm, Pitch 0.65mm, IPC High Density)
footprint MUA08A_M (TSOP, 8-Leads, Body 3x3mm, Pitch 0.65mm, IPC Low Density)
pins: 1 D1+, 2 D1-, 3 D2+, 4 D2-, 5 GND (power), 6 VDD (power), 7 SMBDAT (io), 8 SMBCLK (in)

## LM95241CIMM-2
designator U?
Dual Remote Diode Temperature Sensor with SMBus Interface and TruTherm Technology (65nm/90nm); PartNumber: LM95241CIMM-2; Manufacturer: National Semiconductor; CompType: Temp Sensor IC; PackageTopMarking: ZXTT*T30C; PowerWise: Y; Published: 4-Dec-2008; DatasheetVersion: Sep-2006; PackageVersion: revF, Apr-2008; PackageReference: MUA08A; Publisher: Altium Limited; PackageDescription: MINI SOIC, .118 x .118 x .034in, 8 Lead, .0256in Pitch; RoHS: Y; PinCount: 8; DigiKeyPartNumber: LM95241CIMM-2CT-ND; Code_JEDEC: MO-187-AA; ComponentLink1Description: LM95241 Datasheet; ComponentLink1URL: http://www.national.com/ds/LM/LM95241.pdf; ComponentLink2Description: LM95241 Web Page; ComponentLink2URL: http://www.national.com/pf/LM/LM95241.html; ComponentLink3Description: MUA08A Package Page; ComponentLink3URL: http://www.national.com/packaging/folders/mua08a.html
footprint MUA08A_N (TSOP, 8-Leads, Body 3x3mm, Pitch 0.65mm, IPC Medium Density)
footprint MUA08A_L (TSOP, 8-Leads, Body 3x3mm, Pitch 0.65mm, IPC High Density)
footprint MUA08A_M (TSOP, 8-Leads, Body 3x3mm, Pitch 0.65mm, IPC Low Density)
pins: 1 D1+, 2 D1-, 3 D2+, 4 D2-, 5 GND (power), 6 VDD (power), 7 SMBDAT (io), 8 SMBCLK (in)

## LM95245CIM
designator U?
Precision Remote Diode Digital Temperature Sensor with TruTherm BJT Beta Compensation Technology for 45nm Process; PartNumber: LM95245CIM; Manufacturer: National Semiconductor; CompType: Temp Sensor IC; PackageTopMarking: NSZXTT*95245*CIM; PowerWise: N; Published: 4-Dec-2008; DatasheetVersion: Mar-2006; PackageVersion: revL, Sep-2006; PackageReference: M08A; Publisher: Altium Limited; PackageDescription: SOIC Narrow, 4.9 x 3.9 x 1.45mm, 8 Lead, 1.27mm Pitch; RoHS: O; PinCount: 8; DigiKeyPartNumber: LM95245CIM-ND; Code_JEDEC: MS-012-AA; Code_IPC: SOIC127P600-8; ComponentLink1Description: LM95245 Datasheet; ComponentLink1URL: http://www.national.com/ds/LM/LM95245.pdf; ComponentLink2Description: LM95245 Web Page; ComponentLink2URL: http://www.national.com/pf/LM/LM95245.html; ComponentLink3Description: M08A Package Page; ComponentLink3URL: http://www.national.com/packaging/folders/m08a.html
footprint M08A_N (SOIC, 8-Leads, Body 4.9x3.9mm, Pitch 1.27mm, IPC Medium Density)
footprint M08A_L (SOIC, 8-Leads, Body 4.9x3.9mm, Pitch 1.27mm, IPC High Density)
footprint M08A_M (SOIC, 8-Leads, Body 4.9x3.9mm, Pitch 1.27mm, IPC Low Density)
pins: 1 VDD (power), 2 D+ (in), 3 D- (in), 4 ~{T_CRIT} (oc), 5 GND (power), 6 ~{OS}/A0 (io), 7 SMBDAT (io), 8 SMBCLK (in)

## LM95245CIMM
designator U?
Precision Remote Diode Digital Temperature Sensor with TruTherm BJT Beta Compensation Technology for 45nm Process; PartNumber: LM95245CIMM; Manufacturer: National Semiconductor; CompType: Temp Sensor IC; PackageTopMarking: ZXTT*T45C; PowerWise: Y; Published: 4-Dec-2008; DatasheetVersion: Mar-2006; PackageVersion: revF, Apr-2008; PackageReference: MUA08A; Publisher: Altium Limited; PackageDescription: MINI SOIC, .118 x .118 x .034in, 8 Lead, .0256in Pitch; RoHS: O; PinCount: 8; DigiKeyPartNumber: LM95245CIMMCT-ND; Code_JEDEC: MO-187-AA; ComponentLink1Description: LM95245 Datasheet; ComponentLink1URL: http://www.national.com/ds/LM/LM95245.pdf; ComponentLink2Description: LM95245 Web Page; ComponentLink2URL: http://www.national.com/pf/LM/LM95245.html; ComponentLink3Description: MUA08A Package Page; ComponentLink3URL: http://www.national.com/packaging/folders/mua08a.html
footprint MUA08A_N (TSOP, 8-Leads, Body 3x3mm, Pitch 0.65mm, IPC Medium Density)
footprint MUA08A_L (TSOP, 8-Leads, Body 3x3mm, Pitch 0.65mm, IPC High Density)
footprint MUA08A_M (TSOP, 8-Leads, Body 3x3mm, Pitch 0.65mm, IPC Low Density)
pins: 1 VDD (power), 2 D+ (in), 3 D- (in), 4 ~{T_CRIT} (oc), 5 GND (power), 6 ~{OS}/A0 (io), 7 SMBDAT (io), 8 SMBCLK (in)

## LM96163CISD
designator U?
Remote Diode Digital Temperature Sensor with  Integrated Fan Control and TruTherm BJT Transistor Beta Compensation Technology; PartNumber: LM96163CISD; Manufacturer: National Semiconductor; CompType: Temp Sensor IC; PackageTopMarking: ZXYTT*T63C; PowerWise: Y; Published: 4-Dec-2008; DatasheetVersion: Jun-2008; PackageVersion: revA, Oct-2003; PackageReference: SDA10A; Publisher: Altium Limited; PackageDescription: LLP, Plastic, Dual, 3 x 3 x 0.8mm Body, 10 Lead, 0.5mm Pitch, No Pullback; RoHS: Y; PinCount: 10; ComponentLink1Description: LM96163 Datasheet; ComponentLink1URL: http://www.national.com/ds/LM/LM96163.pdf; ComponentLink2Description: LM96163 Web Page; ComponentLink2URL: http://www.national.com/pf/LM/LM96163.html; ComponentLink3Description: SDA10A Package Page; ComponentLink3URL: http://www.national.com/packaging/folders/sda10a.html
footprint SDA10A (SON, 10-Leads, Body 3x3 mm, Pitch 0.5mm, NSC Recommended)
pins: 1 ~{TCRIT} (oc), 2 VDD (power), 3 D+, 4 D-, 5 PWM (oc), 6 GND (power), 7 ~{ALERT} (oc), 8 TACH (in), 9 SMBDAT (io), 10 SMBCLK (in), 11 DAP (power)